# EAGLE library part 691232510006 (library Eagle_WR-TBL+Rising+Cage+Clamp_rev20a)
WR-TBL Serie 2325 - 5.08 mm Double Level Horiz. Entry Modular w. Rising Cage, H=25.3 mm KIND PROPERTIES Pitch 5.08 mm MATERIAL PROPERTIES Insulator Material PA66 Insulator Flammability Rating UL94 V-0 Contact Material Brass Contact Plating Tin Terminal Screw Material Steel Terminal Screw Plating Zinc Wire Guard Material Stainless Steel GENERAL INFORMATION Operating Temperature -40 up to +105 °C Compliance Lead free / RoHS ELECTRICAL PROPERTIES IR UL 20 A Working Voltage [UL] 300 V (AC) Withstanding Voltage [UL] 1600 V (AC) Contact Resistance [UL] 20 mΩ MECHANICAL PROPERTIES Wire Strip Length 6 up to 7 (mm) Screw M2.5 CERTIFICATION UL Approval E315414 PACKAGING PROPERTIES Packaging Box <https://www.we-online.com/catalog/media/o33245v209%20Family_WR-TBL_69123251000x.jpg> Details see: https://www.we-online.com/catalog/en/TBL_5_08_2325_DOUBLE_LEVEL_HORIZONTAL_ENTRY_MODULAR_W_RISING_CAGE_6912325100XX/ Updated by Ella Wu 2019-11-25 2019(C) Wurth Elektronik
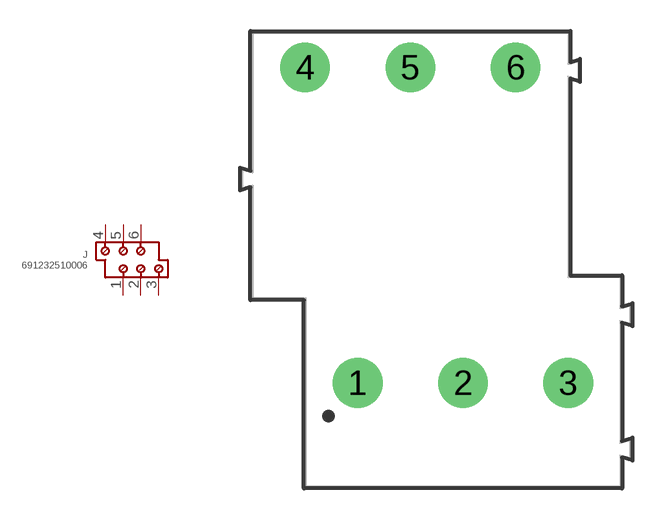
[diagram p19: symbol with the pads of 691232510006; footprint 691232510006]

Designator prefix J

## 691232510006 (IR-UL: 20A; PART-NUMBER: 691232510006; PINS: 6; PITCH: 5.08mm; TYPE: Double Level Horizontal; WIRE: 12 to 22 (AWG) 3.31 to 0.326 (mm²); WORKING-VOLTAGE-UL: 300V (AC))  [691232510006]
1  1  pas
2  2  pas
3  3  pas
4  4  pas
5  5  pas
6  6  pas

## Footprint 691232510006 (pad centres in mm)
WR-TBL Serie 2325 - 5.08 mm Double Level Horiz. Entry Modular w. Rising Cage, H=25.3 mm Max Height =25.3mm , Pitch 5.08mm , 6 Pins
drill 1.6: 1 -5.08,0; 2 0,0; 3 5.08,0; 4 -7.62,15.24; 5 -2.54,15.24; 6 2.54,15.24